# Altium footprint library Inolux_LEDs.PcbLib: 1 footprints
Each footprint in its own frame and in the unit in brackets; x right, y up, seen from the top. Pads: shape width x height; smd on the part's side, far side on the other; paste and mask are expansions set on the pad; w line width, h text height; cw(c..) or ccw(c..) is an arc to the next point about the centre after c.
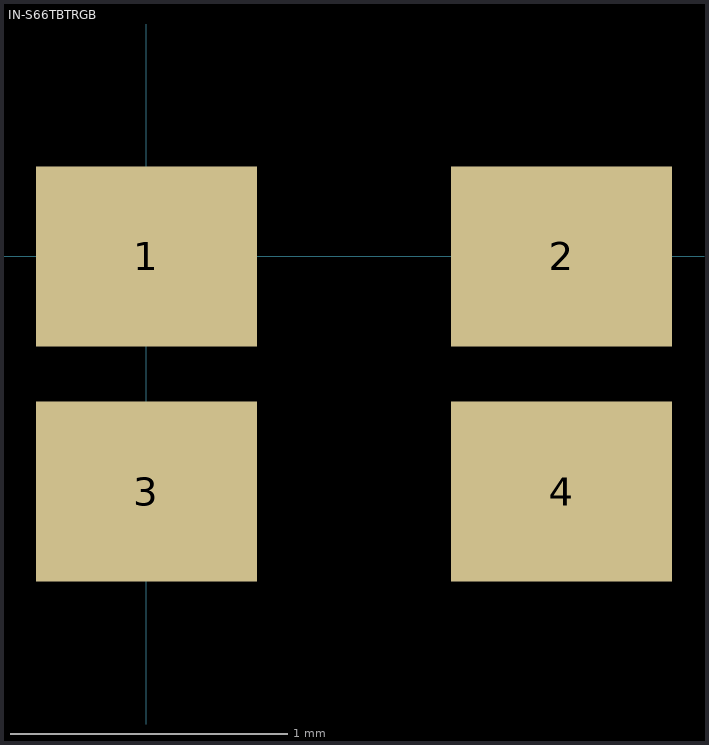
[diagram p0: the footprint, top view; thin cyan lines are the x and y axes]

## IN-S66TBTRGB [mm]
pads (4):
  rect 0.8x0.65 smd: 1(0,0) 2(1.5,0) 3(0,-0.85) 4(1.5,-0.85)